# Altium footprint library Discrete.PcbLib: 53 footprints (part 1 of 4)
Each footprint in its own frame and in the unit in brackets; x right, y up, seen from the top. Pads: shape width x height; smd on the part's side, far side on the other; paste and mask are expansions set on the pad; w line width, h text height; cw(c..) or ccw(c..) is an arc to the next point about the centre after c.
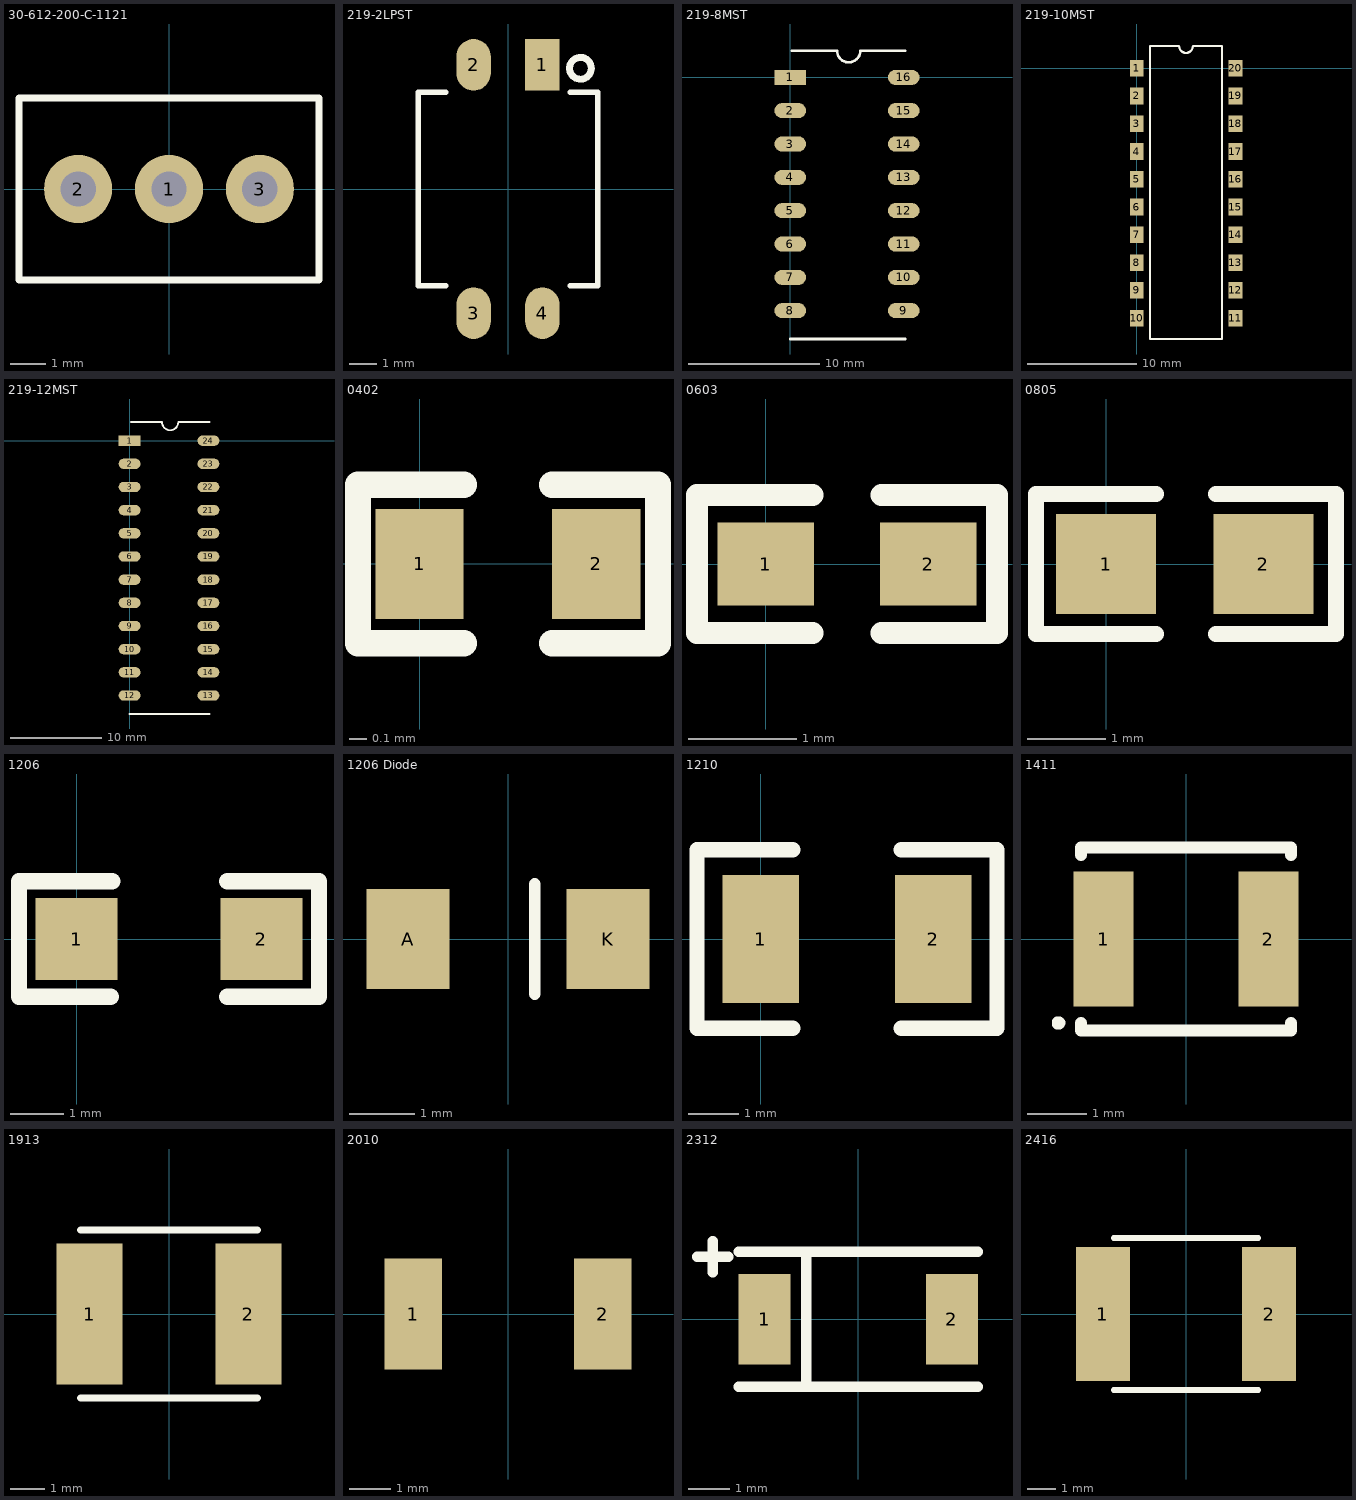
[diagram p0: the footprints below, top view; thin cyan lines are the x and y axes]

## 30-612-200-C-1121 [mil]
height 960
pads (3):
  round 75 hole 39: 1(0,0) 2(-100,0) 3(100,0)
Top Overlay:
  lines w8: -165,-100 165,-100 165,100 -165,100 -165,-100

## 219-2LPST [mil]
pads (4):
  rect 50x75 smd: 1(50,180)
  oval 50x75 smd: 2(-50,180) 3(-50,-180) 4(50,-180)
Top Overlay:
  circle w10: c105,175 r15.81
  lines w8: -90,-140 -130,-140 -130,0 -130,140 -90,140 ; 90,-140 130,-140 130,0 130,140 90,140
3D body: height 168.58, standoff -0.71, extent -130,-195 127.87,195.16

## 219-8MST [mil] "8 position switch"
height 150
pads (16):
  rect 95x45 smd: 1(0,0)
  oval 95x45 smd: 2(0,-100) 3(0,-200) 4(0,-300) 5(0,-400) 6(0,-500) 7(0,-600) 8(0,-700) 9(340,-700) 10(340,-600) 11(340,-500) 12(340,-400) 13(340,-300) 14(340,-200) 15(340,-100) 16(340,0)
Top Overlay:
  lines w8: 0,-785 345,-785 ; 5,80 140,80 ccw(c175,80) 210,80 345,80

## 219-10MST [mil]
pads (20):
  rect 50x60 smd: 1(0,0) 2(0,-100) 3(0,-200) 4(0,-300) 5(0,-400) 6(0,-500) 7(0,-600) 8(0,-700) 9(0,-800) 10(0,-900) 11(355,-900) 12(355,-800) 13(355,-700) 14(355,-600) 15(355,-500) 16(355,-400) 17(355,-300) 18(355,-200) 19(355,-100) 20(355,0)
Top Overlay:
  lines w8: 48,-975 48,80 152.5,80 ccw(c177.5,80) 202.5,80 307,80 307,-975 ; 50,-975 305,-975
3D body: height 169.48, standoff 2.16, extent -20,-977.87 370.16,80

## 219-12MST [mil] "12 Position Switch"
height 150
pads (24):
  rect 95x45 smd: 1(0,0)
  oval 95x45 smd: 2(0,-100) 3(0,-200) 4(0,-300) 5(0,-400) 6(0,-500) 7(0,-600) 8(0,-700) 9(0,-800) 10(0,-900) 11(0,-1000) 12(0,-1100) 13(340,-1100) 14(340,-1000) 15(340,-900) 16(340,-800) 17(340,-700) 18(340,-600) 19(340,-500) 20(340,-400) 21(340,-300) 22(340,-200) 23(340,-100) 24(340,0)
Top Overlay:
  lines w8: 0,-1180 345,-1180 ; 5,80 140,80 ccw(c175,80) 210,80 345,80

## 0402 [mil]
height 15
pads (2):
  rect 20x25 smd: 1(0,0) 2(40.11,0)
Top Overlay:
  lines w6: 10,-18.01 -14,-18.01 -14,17.99 10,17.99 ; 30.12,-18.01 54.12,-18.01 54.12,17.99 30.12,17.99
3D body: height 7.95, standoff 0, extent 0.35,-11.74 39.72,11.88

## 0603 [mil]
height 25
pads (2):
  rect 35x30 smd: 1(0,0) 2(59,0)
Top Overlay:
  lines w8: 17,-25 -25,-25 -25,25 17,25 ; 42,-25 84,-25 84,25 42,25
3D body: height 12.49, standoff 0.6, extent -1.78,-15.56 61.21,15.94

## 0805 [mm]
height 0.813
pads (2):
  rect 1.27x1.27 smd: 1(0,0) 2(2,0)
Top Overlay:
  lines w0.203: 0.635,-0.889 -0.889,-0.889 -0.889,0.889 0.635,0.889 ; 1.397,-0.889 2.921,-0.889 2.921,0.889 1.397,0.889
3D body: height 0.8, standoff 0.02, extent 0.016,-0.604 2.016,0.646

## 1206 [mil]
height 40
pads (2):
  rect 60x60 smd: 1(0,0) 2(135,0)
Top Overlay:
  lines w12: 25,-42 -42,-42 -42,42 26,42 ; 110,-42 177,-42 177,42 110,42
3D body: height 40.05, standoff 0.6, extent 4.44,-31.01 130.43,31.98

## 1206 Diode [mil] "Diode"
height 40
pads (2):
  rect 50x60 smd: A(-60,0) K(60,0)
Top Overlay:
  lines w7: 16,-33 16,33

## 1210 [mil]
pads (2):
  rect 60x100 smd: 1(0,0) 2(135,0)
Top Overlay:
  lines w12: 25,-70 -50,-70 -50,70 25,70 ; 110,-70 185,-70 185,70 110,70

## 1411 [mil]
pads (2):
  rect 40x90 smd: 1(-55,0) 2(55,0)
Top Overlay:
  circle w7: c-85,-56 r1
  lines w8: -70,-56 -70,-61 70,-61 70,-56 ; -70,56 -70,61 70,61 70,56
3D body: height 77.2, standoff 2, extent -67.5,-55 70,55.24

## 1913 [mil] "1913 SMD"
height 100
pads (2):
  rect 75x160 smd: 1(-90,0) 2(90,0)
Top Overlay:
  lines w8: -100,-95 100,-95 ; -100,95 100,95

## 2010 [mil]
pads (2):
  rect 55x105 smd: 1(-90,0) 2(90,0)
3D body: height 24.44, standoff 0, extent -118.1,-53.15 118.11,53.15

## 2312 [mil]
pads (2):
  rect 50x87 smd: 1(-90,0) 2(90,0)
Top Overlay:
  lines w10: -155,60 -125,60 ; -140,45 -140,75 ; -115,-65 115,-65 ; -115,65 115,65 ; -50,-65 -50,65

## 2416 [mil] "2416 SMD"
height 75
pads (2):
  rect 75x185 smd: 1(-115,0) 2(115,0)
Top Overlay:
  lines w8: -100,-105 100,-105 ; -100,105 100,105